# Altium footprint library me218_ruler.PcbLib: 2 footprints
Each footprint in its own frame and in the unit in brackets; x right, y up, seen from the top. Pads: shape width x height; smd on the part's side, far side on the other; paste and mask are expansions set on the pad; w line width, h text height; cw(c..) or ccw(c..) is an arc to the next point about the centre after c.
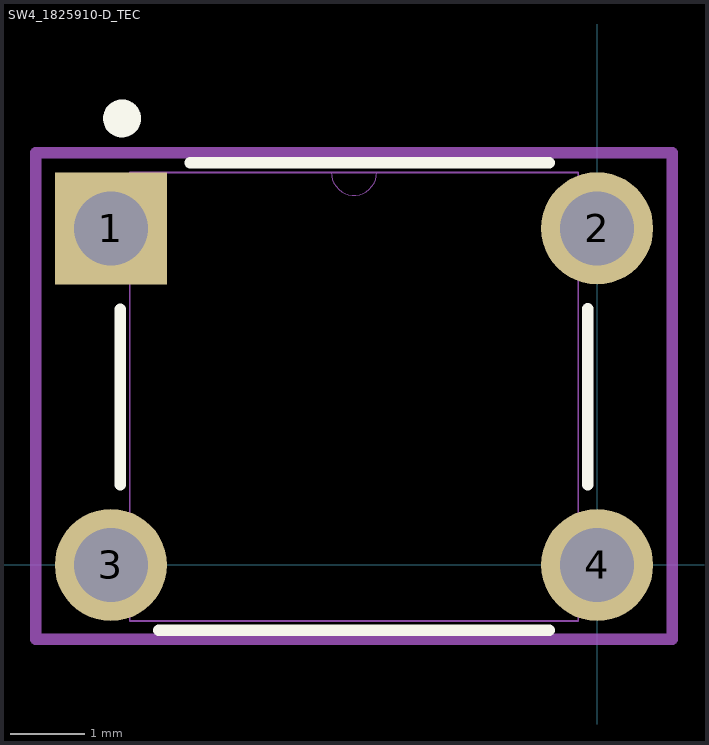
[diagram p0: the footprints below, top view; thin cyan lines are the x and y axes]

## PCBComponent_1 [mil]

## SW4_1825910-D_TEC [mil]
pads (4):
  rect 59x59 / inner round 60 / far side rect 59x59 hole 39 paste-99999 mask+0: 1(-255.91,177.17)
  round 59 / inner round 60 / far side round 59 hole 39 paste-99999 mask-29.5: 2(0,177.17) 3(-255.91,0) 4(0,0)
Top Overlay:
  circle w10: c-250,235 r5
  lines w6: -250.95,42.31 -250.95,134.57 ; -230.8,-34.42 -25.1,-34.42 ; -214.26,211.58 -25.1,211.58 ; -4.95,42.31 -4.95,134.85
Mechanical 13:
  lines w0: -139.95,206.58 ccw(c-127.95,206.58) -115.95,206.58
  lines w1: -275.41,-19.5 -245.95,-19.5 -245.95,19.5 -275.41,19.5 -275.41,-19.5 ; -275.41,157.67 -245.95,157.67 -245.95,196.67 -275.41,196.67 -275.41,157.67 ; -245.95,-29.42 -245.95,206.58 -9.95,206.58 -9.95,-29.42 -245.95,-29.42 ; -9.95,-19.5 19.5,-19.5 19.5,19.5 -9.95,19.5 -9.95,-19.5 ; -9.95,157.67 19.5,157.67 19.5,196.67 -9.95,196.67 -9.95,157.67
  text "*" at -222.5,155 h50
Mechanical 15:
  lines w6: -295.41,-39 39.5,-39 39.5,217 -295.41,217 -295.41,-39
3D body "c-1-1825910-4-c-3d.stp": height 375, standoff -137.2, extent -281.25,-28.73 25.84,207.1